# EAGLE library part ZIF-8 (library JLB6_Connec)
FPC Zif receptacle 8 pins
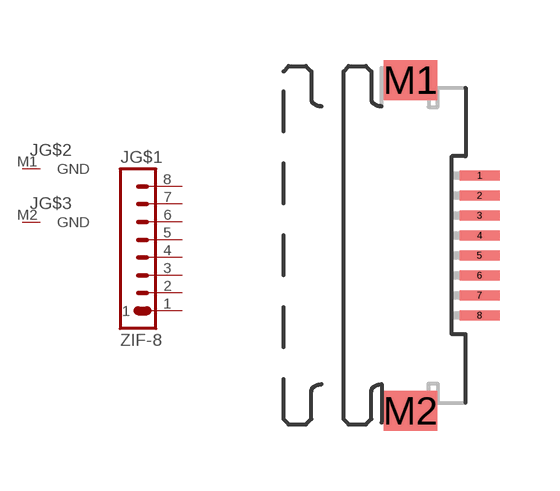
[diagram p81: symbol with the pads of XF2L-0835-1; footprint XF2L-0835-1]

Designator prefix J; gates G$2=GND G$3=GND G$1=1X8

## ZIF-8  [XF2L-0835-1]
1  G$1:1  pas
2  G$1:2  pas
3  G$1:3  pas
4  G$1:4  pas
5  G$1:5  pas
6  G$1:6  pas
7  G$1:7  pas
8  G$1:8  pas
M1  G$2:GND  pwr
M2  G$3:GND  pwr

## Footprint XF2L-0835-1 (pad centres in mm)
ZIF Slide-locking Type (0.5 mm-pitch) Lower-contact Type Source : http://www.omron.com/ecb/products/pdf/fpc.pdf
smd 1 x 0.25: 1 1.905,1.75; 2 1.905,1.25; 3 1.905,0.75; 4 1.905,0.25; 5 1.905,-0.25; 6 1.905,-0.75; 7 1.905,-1.25; 8 1.905,-1.75
smd 1.34 x 1: M1 0.18,4.138; M2 0.18,-4.138